# EAGLE library part 2092-1378/200-000 (library con_wago_5.0 mm)
Serie 2092, Federleiste eCOM mit abgewinkelten Lötstiften ohne Griffplatte THR/ Series 2092, eCOM pluggable PCB connector with angled solder pins without gripping plate THR Polzahl / Pole No.: 8 Rastermaß / Pitch: 5 mm Bemessungsspannung / Rated Voltage: 320 V Nennstrom / Nominal Current: 16 A Leiterquerschnitt / Conductor Size: 0.2 - 2.5 mm² Anschlusstechnik / Connection Technology: CAGE CLAMP® S Lötstiftlänge: / Solder Pin Length: 2.4 mm Farbe / Color: lichtgrau / light gray Stand: 01.01.2013. Die jeweils aktuellen Daten zu diesem Artikel finden Sie in unserem Produktkatalog, den Sie unter www.wago.com einsehen können. As of: 01/01/2013. Please find the newest data for this article in our product catalogue, which can be viewed under www.wago.com.
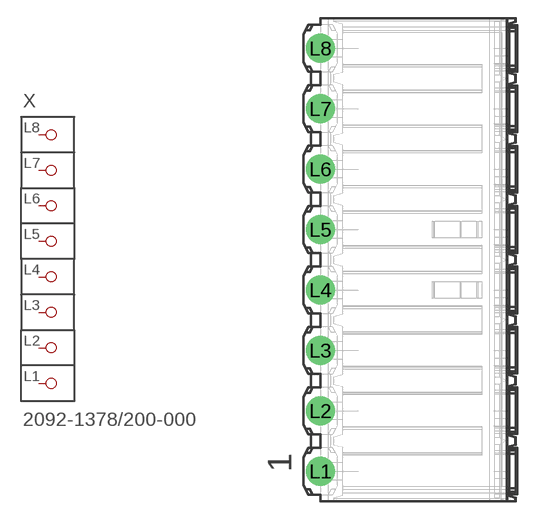
[diagram p13: symbol with the pads of P-2092-1378/200-000; footprint P-2092-1378/200-000]

Designator prefix X

## 2092-1378/200-000  [P-2092-1378/200-000]
L1  P1
L2  P2
L3  P3
L4  P4
L5  P5
L6  P6
L7  P7
L8  P8

## Footprint P-2092-1378/200-000 (pad centres in mm)
drill 1.6 pad 2 round: L1 -7.45,-17.5; L2 -7.45,-12.5; L3 -7.45,-7.5; L4 -7.45,-2.5; L5 -7.45,2.5; L6 -7.45,7.5; L7 -7.45,12.5; L8 -7.45,17.5